# Altium footprint library Devindia_v4.0.PcbLib: 116 footprints (part 7 of 8)
Each footprint in its own frame and in the unit in brackets; x right, y up, seen from the top. Pads: shape width x height; smd on the part's side, far side on the other; paste and mask are expansions set on the pad; w line width, h text height; cw(c..) or ccw(c..) is an arc to the next point about the centre after c.
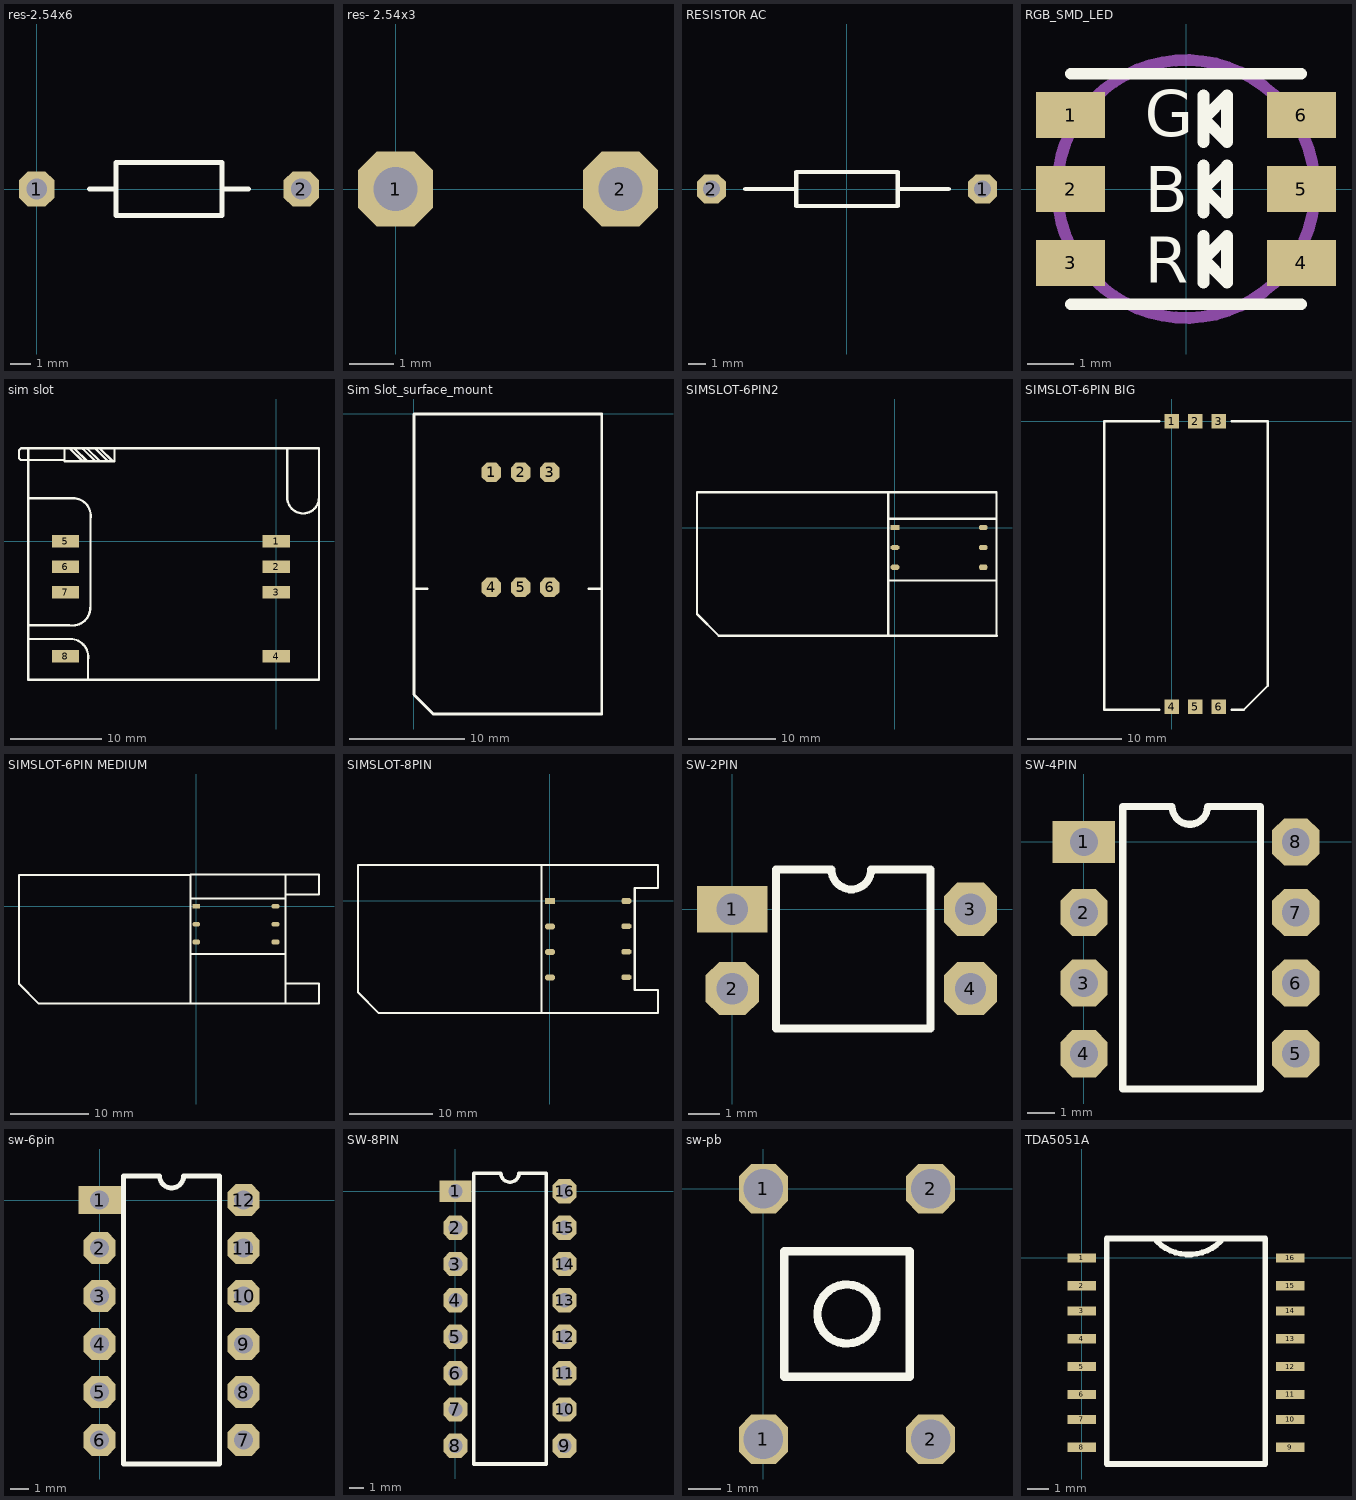
[diagram p6: the footprints below, top view; thin cyan lines are the x and y axes]

## res-2.54x6 [mm]
pads (2):
  oct 1.7x1.7 hole 1: 1(0,0) 2(12.7,0)
Top Overlay:
  lines w0.254: 2.54,0 3.81,0 ; 8.89,0 10.16,0 ; 3.81,-1.27 3.81,1.27 8.89,1.27 8.89,-1.27 3.81,-1.27
3D body: height 2.5, standoff 1.5, extent 12.192,-0.498 13.187,0.498
3D body: height 2.5, standoff 1.5, extent -0.487,-0.498 0.508,0.498
3D body: height 2.5, standoff 1.5, extent 9.652,-0.508 12.692,0.488
3D body: height 2.5, standoff 1.5, extent 0.008,-0.508 3.048,0.488
3D body: height 2, standoff 0, extent 12.192,-0.508 13.19,0.488
3D body: height 2, standoff 0, extent -0.508,-0.508 0.49,0.488
3D body: height 3, standoff 1, extent 3.048,-0.996 9.668,0.996

## res- 2.54x3 [mm]
pads (2):
  oct 1.7x1.7 hole 1: 1(0,0) 2(5.08,0)
3D body: height 2.5, standoff 1.5, extent 4.572,-0.498 5.567,0.498
3D body: height 2.5, standoff 1.5, extent 4.572,-0.498 5.072,0.498
3D body: height 2.5, standoff 1.5, extent 0.008,-0.488 0.508,0.508
3D body: height 2, standoff 0, extent 4.572,-0.508 5.57,0.488
3D body: height 2, standoff 0, extent -0.508,-0.508 0.49,0.488
3D body: height 3, standoff 1, extent 0.254,-0.976 4.754,1.016
3D body: height 2.5, standoff 1.5, extent -0.508,-0.498 0.487,0.498

## RESISTOR AC [mm]
pads (2):
  oct 1.7x1.7 hole 1: 1(8,0) 2(-8,0)
Top Overlay:
  lines w0.254: -6,0 -3,0 ; 3,0 6,0 ; -3,0 -3,-1 3,-1 3,1 -3,1 -3,0
3D body: height 4, standoff 3, extent 6,-0.5 8,0.496
3D body: height 4, standoff 3, extent -8.003,-0.5 -6.003,0.496
3D body: height 6, standoff 1, extent -6,-2.5 6,2.48
3D body: height 4, standoff 3, extent -8.5,-0.5 -7.505,0.496
3D body: height 4, standoff 3, extent 7.5,-0.5 8.495,0.496
3D body: height 3.5, standoff 0, extent -8.5,-0.5 -7.504,0.498
3D body: height 3.5, standoff 0, extent 7.5,-0.5 8.496,0.498
3D body: height 6.09, standoff 0.91, extent -5,-2.59 -4.5,2.59
3D body: height 6.09, standoff 0.91, extent 4,-2.59 4.5,2.59
3D body: height 6.09, standoff 0.91, extent 0,-2.59 0.5,2.59
3D body: height 6.09, standoff 0.91, extent 2,-2.59 2.5,2.59

## RGB_SMD_LED [mm]
pads (6):
  rect 1.5x1 all layers, no hole: 1(-2.5,1.6) 2(-2.5,0) 3(-2.5,-1.6) 4(2.5,-1.6) 5(2.5,0) 6(2.5,1.6)
Top Overlay:
  lines w0.254: -2.5,-2.5 2.5,-2.5 ; -2.5,2.5 2.5,2.5 ; 0.381,-2.032 0.381,-1.016 0.381,-1.524 ; 0.381,-0.508 0.381,0.508 0.381,0 ; 0.381,1.016 0.381,2.032 0.381,1.524 ; 0.381,-1.524 0.889,-1.016 0.889,-2.032 0.381,-1.524 ; 0.381,0 0.889,0.508 0.889,-0.508 0.381,0 ; 0.381,1.524 0.889,2.032 0.889,1.016 0.381,1.524
  text "G" at -0.889,1.143 h1
  text "B" at -0.889,-0.508 h1
  text "R" at -0.889,-2.032 h1
Mechanical 1:
  circle w0.254: c0,0 r2.794
3D body: height 1.7, standoff 1.68, extent 0.381,-2.794 2.159,-0.762
3D body: height 1.7, standoff 1.68, extent 0.254,0.762 2.159,2.794
3D body: height 1.7, standoff 1.68, extent -2.286,1.27 -0.254,2.794
3D body: height 1.68, standoff 0.2, extent -3.429,-3.175 3.429,3.175
3D body: height 0.2, standoff 0, extent -3.175,1.27 -1.905,1.905
3D body: height 0.2, standoff 0, extent -3.175,-0.33 -1.905,0.305
3D body: height 0.2, standoff 0, extent -3.175,-1.93 -1.905,-1.295
3D body: height 0.2, standoff 0, extent 1.825,-1.93 3.095,-1.295
3D body: height 0.2, standoff 0, extent 1.825,-0.33 3.095,0.305
3D body: height 0.2, standoff 0, extent 1.825,1.27 3.095,1.905
3D body: height 1.7, standoff 1.68, extent -2.794,-0.381 -1.524,0.381
3D body: height 1.7, standoff 1.68, extent -0.889,-0.889 2.667,0.889
3D body: height 1.7, standoff 1.68, extent -2.286,-2.794 -0.254,-1.27

## sim slot [mm]
pads (8):
  rect 3x1.4 smd: 1(0,0) 2(0,-2.8) 3(0,-5.6) 4(0,-12.65) 5(-23.2,0) 6(-23.2,-2.8) 7(-23.2,-5.6) 8(-23.2,-12.65)
Top Overlay:
  lines w0.254: -27.3,-9.25 -22.8,-9.25 ccw(c-22.456,-7.296) -20.472,-7.296 -20.472,-7.473 -20.442,-7.503 -20.442,2.422 ccw(c-22.396,2.766) -22.396,4.75 -27.3,4.75 ; -27.173,-10.75 -22.673,-10.75 cw(c-22.673,-12.734) -20.719,-13.078 -20.719,-15.227 -20.696,-15.25 ; -23.363,10.25 -23.3,10.187 -23.3,8.823 -17.8,8.823 -17.8,10.148 -17.902,10.25 ; -23.3,8.95 -27.3,8.95 -27.878,8.95 -28.132,8.95 -28.316,9.134 -28.316,9.388 -28.316,10.023 -28.089,10.25 -27.908,10.25 -27.3,10.25 ; -22.701,10.193 -21.331,8.823 ; -22.601,10.25 -22.574,10.25 ; -22.193,10.193 -20.823,8.823 ; -21.304,10.193 -19.934,8.823 ; -21.204,8.823 -21.204,8.88 ; -20.796,10.193 -19.426,8.823 ; -19.907,10.193 -18.537,8.823 ; -19.399,10.193 -18.029,8.823 ; 1.2,4.75 1.2,10.25 ; 1.2,4.816 ccw(c2.95,4.816) 4.7,4.816 ; -27.3,10.25 -27.3,-15.25 4.7,-15.25 4.7,10.25 -27.3,10.25

## Sim Slot_surface_mount [mm]
pads (6):
  oct 1.7x1.7 all layers, no hole: 1(6.756,-5.08) 2(9.296,-5.08) 3(11.836,-5.08) 4(6.756,-15.113) 5(9.296,-15.113) 6(11.836,-15.113)
Top Overlay:
  lines w0.254: 0.025,-15.24 1.135,-15.24 ; 15.265,-15.24 16.375,-15.24 ; -0.008,-24.478 1.676,-26.162 16.375,-26.162 16.375,0 -0.008,0 -0.008,-24.478
Drill Guide:
  lines w0.254: 16.281,-5.08 16.408,-5.207

## SIMSLOT-6PIN2 [mm]
pads (6):
  rect 1x0.6 smd: 1(0,0)
  oct 1x0.6 smd: 2(0,-2.286) 3(0,-4.572) 4(10.16,0) 5(10.16,-2.286) 6(10.16,-4.572)
Top Overlay:
  lines w0.254: -0.762,-6.096 11.68,-6.096 ; -0.762,1.016 11.68,1.016 ; 11.68,-12.446 11.68,3.054 11.68,4.064 -0.762,4.064 ; 11.738,-12.446 -0.762,-12.446 ; -0.762,-12.446 -0.762,4.064 ; -0.762,-12.446 -20.262,-12.446 -22.762,-9.946 -22.762,4.054 -0.772,4.054 -0.762,4.064
3D body: height 2.01, standoff 0, extent 1.778,-12.446 8.488,4.064
3D body: height 2, standoff 0, extent -0.762,-12.446 11.68,4.064

## SIMSLOT-6PIN BIG [mil]
pads (6):
  rect 60x60 all layers, no hole: 1(0,0) 2(98.43,0) 3(196.85,0) 4(0,-1187.4) 5(98.43,-1187.4) 6(196.85,-1187.4)
Top Overlay:
  lines w10: -50,-1200 -280,-1200 -280,0 -50,0 ; 250,-1200 300,-1200 400,-1100 400,0 250,0
3D body: height 145.67, standoff 78.74, extent -50,-375 -30,-305
3D body: height 78.74, standoff 19.68, extent -107.48,-770 207.48,-612.83
3D body: height 78.74, standoff 19.68, extent -107.48,-410 207.48,-252.83
3D body: height 137.8, standoff 78.74, extent -280,-1030 400,-130
3D body: height 118.11, standoff 39.37, extent -280,-1200 400,0

## SIMSLOT-6PIN MEDIUM [mm]
pads (6):
  rect 1x0.6 smd: 1(0,0)
  oct 1x0.6 smd: 2(0,-2.286) 3(0,-4.572) 4(10.16,0) 5(10.16,-2.286) 6(10.16,-4.572)
Top Overlay:
  lines w0.254: -0.762,-6.096 11.43,-6.096 ; -0.762,1.016 11.43,1.016 ; 11.43,1.524 15.748,1.524 15.748,4.064 -0.762,4.064 ; 11.43,4.064 11.43,1.016 ; -0.762,-12.446 -0.762,4.064 ; -0.762,-12.446 15.748,-12.446 15.748,-9.906 11.43,-9.906 11.43,-12.446 11.43,-6.096 ; -0.762,-12.446 -20.262,-12.446 -22.762,-9.946 -22.762,4.054 -0.772,4.054 -0.762,4.064 ; 11.43,-6.096 11.43,1.016
3D body: height 2.01, standoff 0, extent 1.778,-12.446 6.858,4.064
3D body: height 2, standoff 0, extent -0.762,-12.446 15.748,4.064

## SIMSLOT-8PIN [mm]
pads (8):
  rect 1.2x0.7 smd: 1(0,0)
  oct 1.2x0.7 smd: 2(0,-3.06) 3(0,-6.12) 4(0,-9.18) 5(9.15,0) 6(9.15,-3.05) 7(9.15,-6.1) 8(9.15,-9.15)
Top Overlay:
  lines w0.254: -1.026,4.318 -23.016,4.318 -23.016,-10.962 -20.516,-13.462 -1.016,-13.462 ; -1.016,-13.462 12.954,-13.462 12.954,-10.668 10.16,-10.668 10.16,1.524 12.954,1.524 12.954,4.318 -1.016,4.318 -1.016,-13.462
3D body: height 2, standoff 0, extent -1.016,-13.462 12.954,4.318
3D body: height 2.01, standoff 0, extent 1.27,-13.462 7.62,4.318

## SW-2PIN [mm]
pads (4):
  rect 2.25x1.5 hole 1: 1(0,0)
  oct 1.7x1.7 hole 1: 2(0,-2.54) 3(7.62,0) 4(7.62,-2.54)
Top Overlay:
  lines w0.254: 1.397,-3.81 1.397,1.27 3.175,1.27 ccw(c3.81,1.27) 4.445,1.27 6.35,1.27 6.35,-3.81 1.397,-3.81
3D body: height 4.5, standoff 4, extent 3.429,-2.794 4.191,-2.54
3D body: height 4.5, standoff 4, extent 3.429,-0.508 4.191,-0.254
3D body: height 4, standoff 1, extent 2.794,-3.048 4.826,-2.286
3D body: height 4, standoff 1, extent 2.794,-0.762 4.826,0
3D body: height 3, standoff 0, extent 1.27,-3.81 6.35,1.27

## SW-4PIN [mm]
pads (8):
  rect 2.25x1.5 hole 1: 1(0,0)
  oct 1.7x1.7 hole 1: 2(0,-2.54) 3(0,-5.08) 4(0,-7.62) 5(7.62,-7.62) 6(7.62,-5.08) 7(7.62,-2.54) 8(7.62,0)
Top Overlay:
  lines w0.254: 1.397,-8.89 1.397,1.27 3.175,1.27 ccw(c3.81,1.27) 4.445,1.27 6.35,1.27 6.35,-8.89 1.397,-8.89
3D body: height 4.5, standoff 4, extent 3.429,-7.62 4.191,-7.366
3D body: height 4.5, standoff 4, extent 3.429,-5.334 4.191,-5.08
3D body: height 4.5, standoff 4, extent 3.429,-2.794 4.191,-2.54
3D body: height 4.5, standoff 4, extent 3.429,-0.508 4.191,-0.254
3D body: height 4, standoff 1, extent 2.794,-5.588 4.826,-4.826
3D body: height 4, standoff 1, extent 2.794,-7.874 4.826,-7.112
3D body: height 4, standoff 1, extent 2.794,-0.762 4.826,0
3D body: height 4, standoff 1, extent 2.794,-3.048 4.826,-2.286
3D body: height 3, standoff 1, extent 1.27,-8.763 6.35,1.397

## sw-6pin [mm]
pads (12):
  rect 2.25x1.5 hole 1: 1(0,0)
  oct 1.7x1.7 hole 1: 2(0,-2.54) 3(0,-5.08) 4(0,-7.62) 5(0,-10.16) 6(0,-12.7) 7(7.62,-12.7) 8(7.62,-10.16) 9(7.62,-7.62) 10(7.62,-5.08) 11(7.62,-2.54) 12(7.62,0)
Top Overlay:
  lines w0.254: 1.27,-13.97 1.27,1.27 3.175,1.27 ccw(c3.81,1.27) 4.445,1.27 6.35,1.27 6.35,-13.97 1.27,-13.97
3D body: height 4.5, standoff 4, extent 3.429,-12.7 4.191,-12.446
3D body: height 4.5, standoff 4, extent 3.429,-10.414 4.191,-10.16
3D body: height 4.5, standoff 4, extent 3.429,-7.62 4.191,-7.366
3D body: height 4.5, standoff 4, extent 3.429,-5.08 4.191,-4.826
3D body: height 4.5, standoff 4, extent 3.429,-2.54 4.191,-2.286
3D body: height 4.5, standoff 4, extent 3.429,-0.254 4.191,0
3D body: height 4, standoff 1, extent 2.794,-7.874 4.826,-7.112
3D body: height 3, standoff 1, extent 1.27,-13.97 6.35,1.27
3D body: height 3, standoff 1, extent 6.35,-0.508 7.62,0.508
3D body: height 3, standoff 1, extent 6.35,-3.048 7.62,-2.032
3D body: height 3, standoff 1, extent 6.35,-5.588 7.62,-4.572
3D body: height 3, standoff 1, extent 6.35,-8.128 7.62,-7.112
3D body: height 3, standoff 0, extent 7.132,-0.499 8.128,0.499
3D body: height 3, standoff 0, extent 7.132,-3.039 8.128,-2.041
3D body: height 3, standoff 0, extent 7.132,-5.579 8.128,-4.581
3D body: height 3, standoff 0, extent 7.132,-8.119 8.128,-7.121
3D body: height 4, standoff 1, extent 2.794,-2.794 4.826,-2.032
3D body: height 4, standoff 1, extent 2.794,-0.508 4.826,0.254
3D body: height 4, standoff 1, extent 2.794,-5.334 4.826,-4.572
3D body: height 3, standoff 1, extent 6.35,-10.668 7.62,-9.652
3D body: height 3, standoff 0, extent 7.132,-10.659 8.128,-9.661
3D body: height 3, standoff 1, extent 6.35,-13.208 7.62,-12.192
3D body: height 3, standoff 0, extent 7.132,-13.199 8.128,-12.201
3D body: height 3, standoff 1, extent 0,-13.208 1.27,-12.192
3D body: height 3, standoff 0, extent -0.488,-13.199 0.508,-12.201
3D body: height 3, standoff 1, extent 0,-10.668 1.27,-9.652
3D body: height 3, standoff 0, extent -0.488,-10.659 0.508,-9.661
3D body: height 3, standoff 1, extent 0,-8.128 1.27,-7.112
3D body: height 3, standoff 0, extent -0.488,-8.119 0.508,-7.121
3D body: height 3, standoff 1, extent 0,-5.588 1.27,-4.572
3D body: height 3, standoff 0, extent -0.488,-5.579 0.508,-4.581
3D body: height 3, standoff 1, extent 0,-3.048 1.27,-2.032
3D body: height 3, standoff 0, extent -0.488,-3.039 0.508,-2.041
3D body: height 3, standoff 0, extent -0.488,-0.499 0.508,0.499
3D body: height 3, standoff 1, extent 0,-0.508 1.27,0.508
3D body: height 4, standoff 1, extent 2.794,-12.954 4.826,-12.192
3D body: height 4, standoff 1, extent 2.794,-10.668 4.826,-9.906

## SW-8PIN [mm]
pads (16):
  rect 2.25x1.5 hole 1: 1(0,0)
  oct 1.7x1.7 hole 1: 2(0,-2.54) 3(0,-5.08) 4(0,-7.62) 5(0,-10.16) 6(0,-12.7) 7(0,-15.24) 8(0,-17.78) 9(7.62,-17.78) 10(7.62,-15.24) 11(7.62,-12.7) 12(7.62,-10.16) 13(7.62,-7.62) 14(7.62,-5.08) 15(7.62,-2.54) 16(7.62,0)
Top Overlay:
  lines w0.254: 1.27,-19.05 1.27,1.27 3.175,1.27 ccw(c3.81,1.27) 4.445,1.27 6.35,1.27 6.35,-19.05 1.27,-19.05
3D body: height 4.5, standoff 4, extent 3.429,-17.78 4.191,-17.526
3D body: height 4.5, standoff 4, extent 3.429,-15.494 4.191,-15.24
3D body: height 4.5, standoff 4, extent 3.429,-12.7 4.191,-12.446
3D body: height 4.5, standoff 4, extent 3.429,-10.414 4.191,-10.16
3D body: height 4.5, standoff 4, extent 3.429,-7.62 4.191,-7.366
3D body: height 4.5, standoff 4, extent 3.429,-5.08 4.191,-4.826
3D body: height 4.5, standoff 4, extent 3.429,-2.54 4.191,-2.286
3D body: height 4.5, standoff 4, extent 3.429,-0.254 4.191,0
3D body: height 4, standoff 1, extent 2.794,-18.034 4.826,-17.272
3D body: height 4, standoff 1, extent 2.794,-7.874 4.826,-7.112
3D body: height 3, standoff 1, extent 1.27,-19.05 6.35,1.27
3D body: height 3, standoff 1, extent 6.35,-0.508 7.62,0.508
3D body: height 3, standoff 1, extent 6.35,-3.048 7.62,-2.032
3D body: height 3, standoff 1, extent 6.35,-5.588 7.62,-4.572
3D body: height 3, standoff 1, extent 6.35,-8.128 7.62,-7.112
3D body: height 3, standoff 0, extent 7.132,-0.499 8.128,0.499
3D body: height 3, standoff 0, extent 7.132,-3.039 8.128,-2.041
3D body: height 3, standoff 0, extent 7.132,-5.579 8.128,-4.581
3D body: height 3, standoff 0, extent 7.132,-8.119 8.128,-7.121
3D body: height 4, standoff 1, extent 2.794,-2.794 4.826,-2.032
3D body: height 4, standoff 1, extent 2.794,-0.508 4.826,0.254
3D body: height 4, standoff 1, extent 2.794,-5.334 4.826,-4.572
3D body: height 3, standoff 1, extent 6.35,-10.668 7.62,-9.652
3D body: height 3, standoff 0, extent 7.132,-10.659 8.128,-9.661
3D body: height 3, standoff 1, extent 6.35,-13.208 7.62,-12.192
3D body: height 3, standoff 0, extent 7.132,-13.199 8.128,-12.201
3D body: height 3, standoff 1, extent 6.35,-15.748 7.62,-14.732
3D body: height 3, standoff 0, extent 7.132,-15.739 8.128,-14.741
3D body: height 3, standoff 1, extent 6.35,-18.288 7.62,-17.272
3D body: height 3, standoff 0, extent 7.132,-18.279 8.128,-17.281
3D body: height 3, standoff 1, extent 0,-18.288 1.27,-17.272
3D body: height 3, standoff 0, extent -0.488,-18.279 0.508,-17.281
3D body: height 3, standoff 1, extent 0,-15.748 1.27,-14.732
3D body: height 3, standoff 0, extent -0.488,-15.739 0.508,-14.741
3D body: height 3, standoff 1, extent 0,-13.208 1.27,-12.192
3D body: height 3, standoff 0, extent -0.488,-13.199 0.508,-12.201
3D body: height 3, standoff 1, extent 0,-10.668 1.27,-9.652
3D body: height 3, standoff 0, extent -0.488,-10.659 0.508,-9.661
3D body: height 3, standoff 1, extent 0,-8.128 1.27,-7.112
3D body: height 3, standoff 0, extent -0.488,-8.119 0.508,-7.121
3D body: height 3, standoff 1, extent 0,-5.588 1.27,-4.572
3D body: height 3, standoff 0, extent -0.488,-5.579 0.508,-4.581
3D body: height 3, standoff 1, extent 0,-3.048 1.27,-2.032
3D body: height 3, standoff 0, extent -0.488,-3.039 0.508,-2.041
3D body: height 3, standoff 0, extent -0.488,-0.499 0.508,0.499
3D body: height 3, standoff 1, extent 0,-0.508 1.27,0.508
3D body: height 4, standoff 1, extent 2.794,-12.954 4.826,-12.192
3D body: height 4, standoff 1, extent 2.794,-10.668 4.826,-9.906
3D body: height 4, standoff 1, extent 2.794,-15.748 4.826,-14.986

## sw-pb [mm]
pads (4):
  oct 1.5x1.5 hole 1.2: 1(0,-7.62) 1(0,0) 2(5.08,-7.62) 2(5.08,0)
Top Overlay:
  circle w0.254: c2.54,-3.81 r0.898
  lines w0.254: 0.635,-5.715 4.445,-5.715 4.445,-1.905 0.635,-1.905 0.635,-5.715
3D body: height 4, standoff 0, extent -0.498,-0.49 0.498,0.508
3D body: height 5.5, standoff 1, extent 1.524,-4.826 3.548,-2.798
3D body: height 4, standoff 1, extent 0.508,-5.842 4.572,-1.778
3D body: height 4, standoff 0, extent 4.582,-0.49 5.578,0.508
3D body: height 4, standoff 0, extent 4.582,-8.11 5.578,-7.112
3D body: height 4, standoff 0, extent -0.498,-8.11 0.498,-7.112
3D body: height 4, standoff 1, extent -0.508,-8.128 1.27,-5.08
3D body: height 4, standoff 1, extent 3.556,-8.382 5.842,-5.08
3D body: height 4, standoff 1, extent 3.81,-2.54 5.588,0.508
3D body: height 4, standoff 1, extent -0.762,-2.54 1.524,0.762

## TDA5051A [mm]
height 9
pads (16):
  rect 1.3x0.42 all layers, no hole: 1(0,0) 2(0,-1.27) 3(0,-2.413) 4(0,-3.683) 5(0,-4.953) 6(0,-6.223) 7(0,-7.366) 8(0,-8.636) 9(9.525,-8.636) 10(9.525,-7.366) 11(9.525,-6.223) 12(9.525,-4.953) 13(9.525,-3.683) 14(9.525,-2.413) 15(9.525,-1.27) 16(9.525,0)
Top Overlay:
  lines w0.254: 3.429,0.762 ccw(c4.889,2.222) 6.35,0.762 ; 1.143,-9.398 1.143,0.889 8.382,0.889 8.382,-9.398 1.143,-9.398
3D body: height 0.32, standoff 0, extent 8.746,-0.127 10.016,0.381
3D body: height 1.16, standoff 0.84, extent 7.603,-0.127 8.746,0.381
3D body: height 0.32, standoff 0, extent 8.619,-0.127 8.938,0.381
3D body: height 0.32, standoff 0, extent 8.746,-1.377 10.016,-0.869
3D body: height 1.16, standoff 0.84, extent 7.603,-1.377 8.746,-0.869
3D body: height 0.32, standoff 0, extent 8.619,-1.377 8.938,-0.869
3D body: height 0.32, standoff 0, extent 8.746,-2.627 10.016,-2.119
3D body: height 1.16, standoff 0.84, extent 7.603,-2.627 8.746,-2.119
3D body: height 0.32, standoff 0, extent 8.619,-2.627 8.938,-2.119
3D body: height 0.32, standoff 0, extent 8.746,-3.877 10.016,-3.369
3D body: height 1.16, standoff 0.84, extent 7.603,-3.877 8.746,-3.369
3D body: height 0.32, standoff 0, extent 8.619,-3.877 8.938,-3.369
3D body: height 0.32, standoff 0, extent 8.746,-5.127 10.016,-4.619
3D body: height 1.16, standoff 0.84, extent 7.603,-5.127 8.746,-4.619
3D body: height 0.32, standoff 0, extent 8.619,-5.127 8.938,-4.619
3D body: height 0.32, standoff 0, extent 8.746,-6.377 10.016,-5.869
3D body: height 1.16, standoff 0.84, extent 7.603,-6.377 8.746,-5.869
3D body: height 0.32, standoff 0, extent 8.619,-6.377 8.938,-5.869
3D body: height 0.32, standoff 0, extent 8.746,-7.627 10.016,-7.119
3D body: height 1.16, standoff 0.84, extent 7.603,-7.627 8.746,-7.119
3D body: height 0.32, standoff 0, extent 8.619,-7.627 8.938,-7.119
3D body: height 0.32, standoff 0, extent 8.746,-8.877 10.016,-8.369
3D body: height 1.16, standoff 0.84, extent 7.603,-8.877 8.746,-8.369
3D body: height 0.32, standoff 0, extent 8.619,-8.877 8.938,-8.369
3D body: height 0.32, standoff 0, extent -0.516,-8.881 0.754,-8.373
3D body: height 1.16, standoff 0.84, extent 0.754,-8.881 1.897,-8.373
3D body: height 0.32, standoff 0, extent 0.562,-8.881 0.881,-8.373
3D body: height 0.32, standoff 0, extent -0.516,-7.631 0.754,-7.123
3D body: height 1.16, standoff 0.84, extent 0.754,-7.631 1.897,-7.123
3D body: height 0.32, standoff 0, extent 0.562,-7.631 0.881,-7.123
3D body: height 0.32, standoff 0, extent -0.516,-6.381 0.754,-5.873
3D body: height 1.16, standoff 0.84, extent 0.754,-6.381 1.897,-5.873
3D body: height 0.32, standoff 0, extent 0.562,-6.381 0.881,-5.873
3D body: height 0.32, standoff 0, extent -0.516,-5.131 0.754,-4.623
3D body: height 1.16, standoff 0.84, extent 0.754,-5.131 1.897,-4.623
3D body: height 0.32, standoff 0, extent 0.562,-5.131 0.881,-4.623
3D body: height 0.32, standoff 0, extent -0.516,-3.881 0.754,-3.373
3D body: height 1.16, standoff 0.84, extent 0.754,-3.881 1.897,-3.373
3D body: height 0.32, standoff 0, extent 0.562,-3.881 0.881,-3.373
3D body: height 0.32, standoff 0, extent -0.516,-2.631 0.754,-2.123
3D body: height 1.16, standoff 0.84, extent 0.754,-2.631 1.897,-2.123
3D body: height 0.32, standoff 0, extent 0.562,-2.631 0.881,-2.123
3D body: height 0.32, standoff 0, extent -0.516,-1.381 0.754,-0.873
3D body: height 1.16, standoff 0.84, extent 0.754,-1.381 1.897,-0.873
3D body: height 0.32, standoff 0, extent 0.562,-1.381 0.881,-0.873
3D body: height 0.32, standoff 0, extent -0.516,-0.131 0.754,0.377
3D body: height 1.16, standoff 0.84, extent 0.754,-0.131 1.897,0.377
3D body: height 0.32, standoff 0, extent 0.562,-0.131 0.881,0.377
3D body: height 2.05, standoff 1.05, extent 1.651,-9.398 8.001,0.762
3D body: height 1.18, standoff 0.1, extent 1.016,-9.398 8.382,1.016